# EAGLE library part ATTINY441/841 (library Custom)
ATTINY441, ATTINY841 8 bit MCU, 4/8k flash, 256/512B SRAM
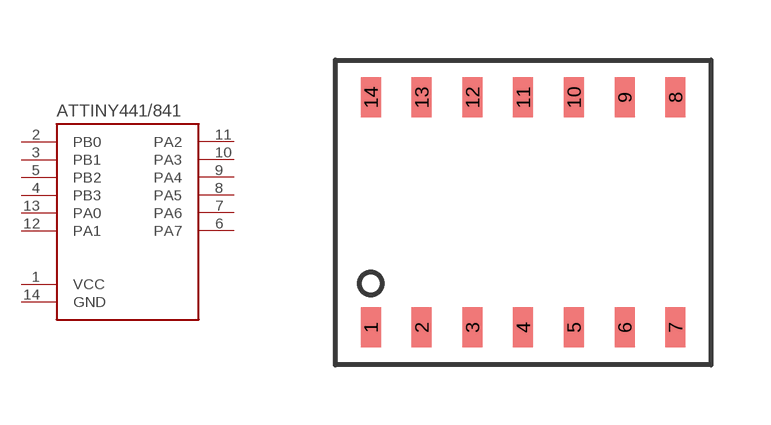
[diagram p10: symbol with the pads of SOIC_14; footprint SOIC_14]

Designator prefix -

## ATTINY441/841  [SOIC_14]
1  VCC
2  PB0
3  PB1
4  PB3
5  PB2
6  PA7
7  PA6
8  PA5
9  PA4
10  PA3
11  PA2
12  PA1
13  PA0
14  GND

## Footprint SOIC_14 (pad centres in mm)
smd 0.5 x 1: 1 -3.81,-2.875; 2 -2.54,-2.875; 3 -1.27,-2.875; 4 0,-2.875; 5 1.27,-2.875; 6 2.54,-2.875; 7 3.81,-2.875; 8 3.81,2.875; 9 2.54,2.875; 10 1.27,2.875; 11 0,2.875; 12 -1.27,2.875; 13 -2.54,2.875; 14 -3.81,2.875